# Altium schematic symbol library AD9834.SchLib: 1 symbol
Pins are listed as number, name and electrical type; pins without a type are passive.

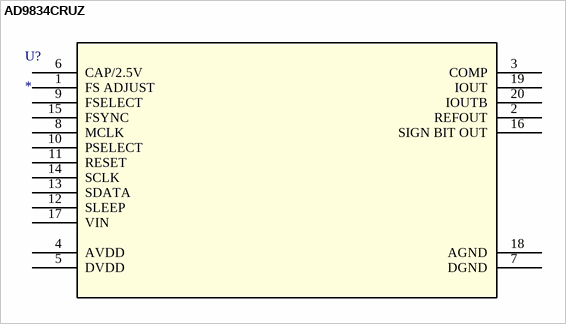
[diagram p0: symbol AD9834CRUZ]

## AD9834CRUZ
designator U?
Imported; Manufacturer_Part_Number: AD9834CRUZ; Vendor: Vendor; Value: Value; Type: Type; RefDes: Refdes
footprint RU_20
footprint RU_20_L
footprint RU_20_M
pins: 1 FS ADJUST, 2 REFOUT, 3 COMP, 4 AVDD (power), 5 DVDD (power), 6 CAP/2.5V, 7 DGND, 8 MCLK, 9 FSELECT, 10 PSELECT, 11 RESET, 12 SLEEP, 13 SDATA, 14 SCLK, 15 FSYNC, 16 SIGN BIT OUT, 17 VIN, 18 AGND, 19 IOUT, 20 IOUTB